# EAGLE library part MCP9808-E/MS (library Sensor)
SENSOR DIGITAL -40C-125C 8MSOP Manufacturer's datasheet <http://ww1.microchip.com/downloads/en/DeviceDoc/MCP9808-0.5C-Maximum-Accuracy-Digital-Temperature-Sensor-Data-Sheet-DS20005095B.pdf>
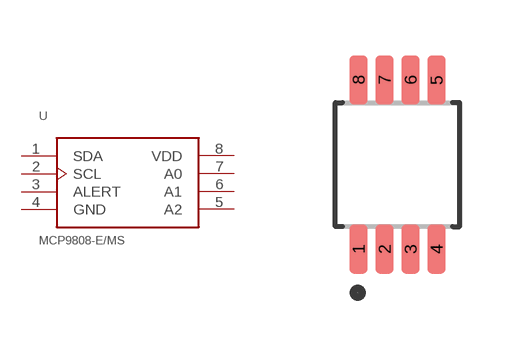
[diagram p12: symbol with the pads of 8-MSOP; footprint 8-MSOP]

Designator prefix U

## MCP9808-E/MS (CREATED_BY: PCBLayout.com; DIGIKEY_PART_NUMBER: MCP9808-E/MS-ND; MANUFACTURER: Microchip Technology; MPN: MCP9808-E/MS; PACKAGE: 8-MSOP)  [8-MSOP]
1  SDA
2  SCL  in
3  ALERT  out
4  GND  pwr
5  A2  in
6  A1  in
7  A0  in
8  VDD  pwr

## Footprint 8-MSOP (pad centres in mm)
Small Outline Pkg (SOP), 0.65 mm pitch; 8 pin, 3.00 mm L X 3.00 mm W X 1.10 mm H body PCB Libraries Packages
smd 0.45 x 1.22: 1 -0.975,-2.115; 2 -0.325,-2.115; 3 0.325,-2.115; 4 0.975,-2.115; 5 0.975,2.115; 6 0.325,2.115; 7 -0.325,2.115; 8 -0.975,2.115